# EAGLE library part MP4212 (library myparts)
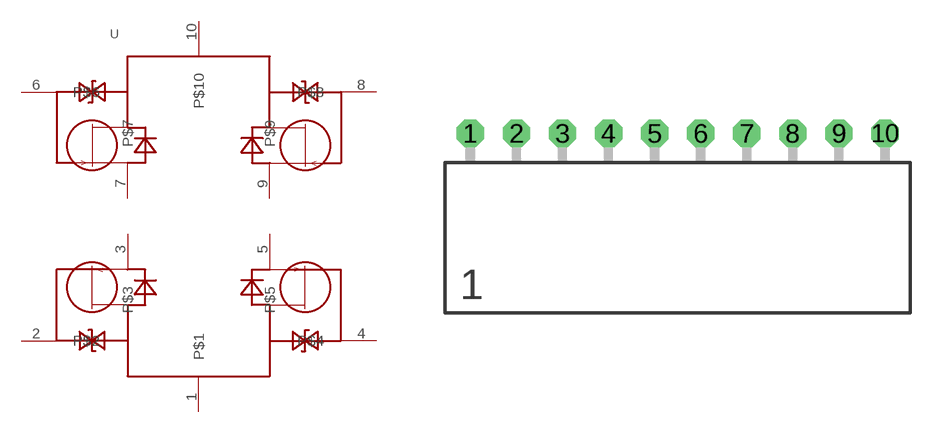
[diagram p1: symbol with the pads of SSW-110-02-S-S-RA; footprint SSW-110-02-S-S-RA]

Designator prefix -

## MP4212  [SSW-110-02-S-S-RA]
1  P$1
2  P$2
3  P$3
4  P$4
5  P$5
6  P$6
7  P$7
8  P$8
9  P$9
10  P$10

## Footprint SSW-110-02-S-S-RA (pad centres in mm)
THROUGH-HOLE .025" SQ POST SOCKET Source: Samtec SSW.pdf
drill 1 pad 1.5 octagon: 1 -11.43,1.524; 2 -8.89,1.524; 3 -6.35,1.524; 4 -3.81,1.524; 5 -1.27,1.524; 6 1.27,1.524; 7 3.81,1.524; 8 6.35,1.524; 9 8.89,1.524; 10 11.43,1.524